# Altium footprint library BCS-119-L-D-TE.PcbLib: 1 footprints
Each footprint in its own frame and in the unit in brackets; x right, y up, seen from the top. Pads: shape width x height; smd on the part's side, far side on the other; paste and mask are expansions set on the pad; w line width, h text height; cw(c..) or ccw(c..) is an arc to the next point about the centre after c.
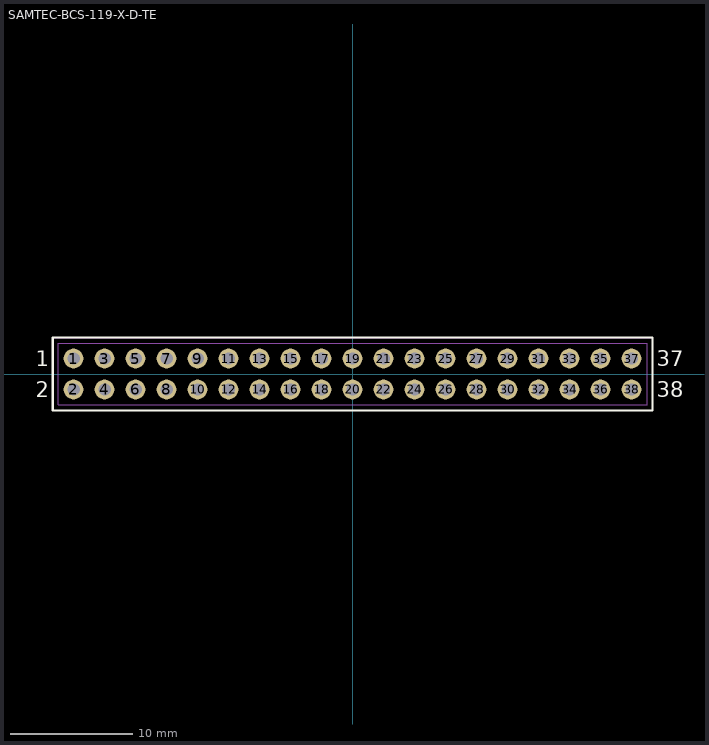
[diagram p0: the footprint, top view; thin cyan lines are the x and y axes]

## SAMTEC-BCS-119-X-D-TE [mm]
pads (38):
  round 1.62 hole 1.02 mask+0.051: 1(-22.86,1.27) 2(-22.86,-1.27) 3(-20.32,1.27) 4(-20.32,-1.27) 5(-17.78,1.27) 6(-17.78,-1.27) 7(-15.24,1.27) 8(-15.24,-1.27) 9(-12.7,1.27) 10(-12.7,-1.27) 11(-10.16,1.27) 12(-10.16,-1.27) 13(-7.62,1.27) 14(-7.62,-1.27) 15(-5.08,1.27) 16(-5.08,-1.27) 17(-2.54,1.27) 18(-2.54,-1.27) 19(0,1.27) 20(0,-1.27) 21(2.54,1.27) 22(2.54,-1.27) 23(5.08,1.27) 24(5.08,-1.27) 25(7.62,1.27) 26(7.62,-1.27) 27(10.16,1.27) 28(10.16,-1.27) 29(12.7,1.27) 30(12.7,-1.27) 31(15.24,1.27) 32(15.24,-1.27) 33(17.78,1.27) 34(17.78,-1.27) 35(20.32,1.27) 36(20.32,-1.27) 37(22.86,1.27) 38(22.86,-1.27)
Top Overlay:
  lines w0.2: -24.58,-2.99 24.58,-2.99 24.58,2.99 -24.58,2.99 -24.58,-2.99
  text "37" at 24.921,0.635 h1.27
  text "2" at -25.95,-1.905 h1.27
  text "1" at -25.95,0.635 h1.27
  text "38" at 24.921,-1.905 h1.27
Bottom Solder:
  circle w0: c22.86,-1.27 r0.861
  circle w0: c22.86,1.27 r0.861
  circle w0: c20.32,-1.27 r0.861
  circle w0: c20.32,1.27 r0.861
  circle w0: c17.78,-1.27 r0.861
  circle w0: c17.78,1.27 r0.861
  circle w0: c15.24,-1.27 r0.861
  circle w0: c15.24,1.27 r0.861
  circle w0: c12.7,-1.27 r0.861
  circle w0: c12.7,1.27 r0.861
  circle w0: c10.16,-1.27 r0.861
  circle w0: c10.16,1.27 r0.861
  circle w0: c7.62,-1.27 r0.861
  circle w0: c7.62,1.27 r0.861
  circle w0: c5.08,-1.27 r0.861
  circle w0: c5.08,1.27 r0.861
  circle w0: c2.54,-1.27 r0.861
  circle w0: c2.54,1.27 r0.861
  circle w0: c0,-1.27 r0.861
  circle w0: c0,1.27 r0.861
  circle w0: c-2.54,-1.27 r0.861
  circle w0: c-2.54,1.27 r0.861
  circle w0: c-5.08,-1.27 r0.861
  circle w0: c-5.08,1.27 r0.861
  circle w0: c-7.62,-1.27 r0.861
  circle w0: c-7.62,1.27 r0.861
  circle w0: c-10.16,-1.27 r0.861
  circle w0: c-10.16,1.27 r0.861
  circle w0: c-12.7,-1.27 r0.861
  circle w0: c-12.7,1.27 r0.861
  circle w0: c-15.24,-1.27 r0.861
  circle w0: c-15.24,1.27 r0.861
  circle w0: c-17.78,-1.27 r0.861
  circle w0: c-17.78,1.27 r0.861
  circle w0: c-20.32,-1.27 r0.861
  circle w0: c-20.32,1.27 r0.861
  circle w0: c-22.86,-1.27 r0.861
  circle w0: c-22.86,1.27 r0.861
Mechanical 13:
  drawing of 213 lines, arcs and shapes, not listed